# Altium footprint library Stamp-S3Bat_SMD.PcbLib: 1 footprints
Each footprint in its own frame and in the unit in brackets; x right, y up, seen from the top. Pads: shape width x height; smd on the part's side, far side on the other; paste and mask are expansions set on the pad; w line width, h text height; cw(c..) or ccw(c..) is an arc to the next point about the centre after c.
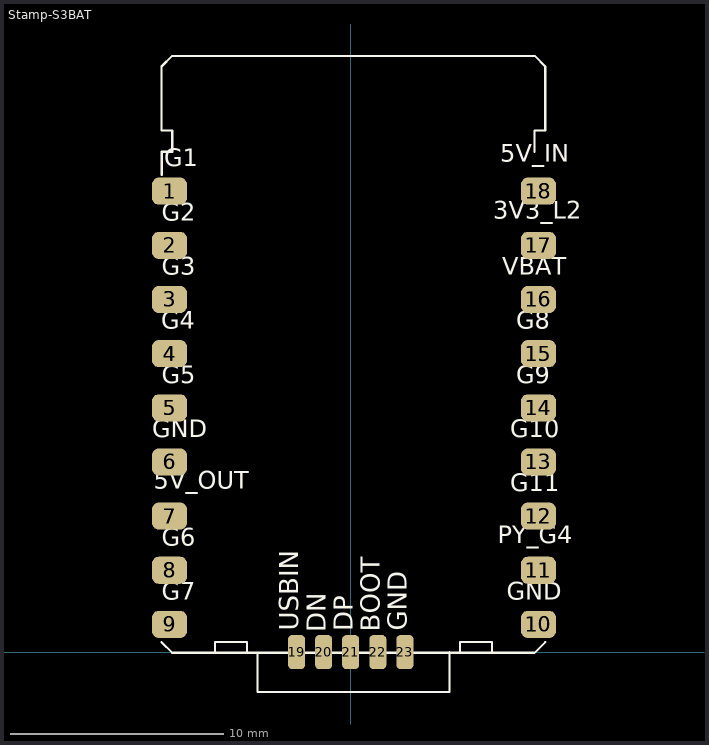
[diagram p0: the footprint, top view; thin cyan lines are the x and y axes]

## Stamp-S3BAT [mm]
pads (39):
  rrect50% 1.651x1.27 smd: 1(-8.5,21.62) 2(-8.5,19.08) 3(-8.5,16.54) 3(-8.5,16.54) 4(-8.5,14) 4(-8.5,14) 5(-8.5,11.46) 5(-8.5,11.46) 6(-8.5,8.92) 6(-8.5,8.92) 7(-8.5,6.38) 7(-8.5,6.38) 8(-8.5,3.84) 8(-8.5,3.84) 9(-8.5,1.3) 9(-8.5,1.3) 10(8.808,1.3) 10(8.808,1.3) 11(8.808,3.84) 11(8.808,3.84) 12(8.808,6.38) 12(8.808,6.38) 13(8.808,8.92) 13(8.808,8.92) 14(8.808,11.46) 14(8.808,11.46) 15(8.808,14) 15(8.808,14) 16(8.808,16.54) 16(8.808,16.54) 17(8.808,19.08) 17(8.808,19.08) 18(8.808,21.62) 18(8.808,21.62)
  rrect50% 0.8x1.6 smd paste-2539.97 mask+0.051: 19(-2.54,0) 20(-1.27,0) 21(0,0) 22(1.27,0) 23(2.54,0)
Top Overlay:
  lines w0.1: -8.873,0.47 -8.373,-0.03 -6.373,-0.03 -6.373,0.47 -4.873,0.47 -4.873,-0.03 5.127,-0.03 5.127,0.47 6.627,0.47 6.627,-0.03 8.627,-0.03 9.127,0.47 ; -8.873,23.47 -8.373,23.47 -8.373,24.47 -8.873,24.47 -8.873,27.47 -8.373,27.97 -5.373,27.97 -4.373,27.97 8.627,27.97 9.127,27.47 9.127,24.47 8.627,24.47 8.627,23.47 ; -6.873,-0.03 -2.373,-0.03 ; -4.373,-0.03 -4.373,-1.88 4.627,-1.88 4.627,0 ; 2.627,-0.03 7.127,-0.03
  lines w0.127: -8.865,22.403 -8.865,23.47
  text "GND" at 2.934,1.002 h1.52
  text "BOOT" at 1.664,0.957 h1.52
  text "DP" at 0.392,0.988 h1.52
  text "DN" at -0.877,0.933 h1.52
  text "USBIN" at -2.146,0.997 h1.52
  text "5V_IN" at 7.005,22.726 h1.4
  text "3V3_L2" at 6.694,20.054 h1.4
  text "VBAT" at 7.102,17.419 h1.4
  text "G8" at 7.766,14.879 h1.4
  text "G9" at 7.77,12.339 h1.4
  text "G10" at 7.473,9.799 h1.4
  text "G11" at 7.485,7.259 h1.4
  text "PY_G4" at 6.891,4.814 h1.4
  text "GND" at 7.321,2.179 h1.4
  text "G7" at -8.866,2.179 h1.4
  text "G6" at -8.871,4.719 h1.4
  text "5V_OUT" at -9.243,7.38 h1.4
  text "GND" at -9.316,9.799 h1.4
  text "G5" at -8.862,12.339 h1.4
  text "G4" at -8.878,14.879 h1.4
  text "G3" at -8.865,17.419 h1.4
  text "G2" at -8.866,19.959 h1.4
  text "G1" at -8.735,22.499 h1.4
3D body: height 0, standoff 0, extent 7.874,15.786 9.728,17.259
3D body: height 0, standoff 0, extent 7.874,18.313 9.728,19.787
3D body: height 0, standoff 0, extent 7.874,20.853 9.728,22.327
3D body: height 0, standoff 0, extent 7.874,8.191 9.728,9.665
3D body: height 0, standoff 0, extent 7.874,10.719 9.728,12.192
3D body: height 0, standoff 0, extent 7.874,13.259 9.728,14.732
3D body: height 0, standoff 0, extent 7.874,0.572 9.728,2.045
3D body: height 0, standoff 0, extent 7.874,3.099 9.728,4.572
3D body: height 0, standoff 0, extent 7.874,5.639 9.728,7.112
3D body: height 0.03, standoff 0, extent -2.972,-0.838 -2.108,0.838
3D body: height 0.03, standoff 0, extent -1.702,-0.838 -0.838,0.838
3D body: height 0.03, standoff 0, extent -0.432,-0.838 0.432,0.838
3D body: height 0.03, standoff 0, extent 0.838,-0.838 1.702,0.838
3D body: height 0.03, standoff 0, extent 2.108,-0.838 2.972,0.838
3D body: height 0, standoff 0, extent -9.423,20.879 -7.569,22.352
3D body: height 0, standoff 0, extent -9.423,18.339 -7.569,19.812
3D body: height 0, standoff 0, extent -9.423,15.811 -7.569,17.285
3D body: height 0, standoff 0, extent -9.423,13.259 -7.569,14.732
3D body: height 0, standoff 0, extent -9.423,10.719 -7.569,12.192
3D body: height 0, standoff 0, extent -9.423,8.191 -7.569,9.665
3D body: height 0, standoff 0, extent -9.423,5.639 -7.569,7.112
3D body: height 0, standoff 0, extent -9.423,3.099 -7.569,4.572
3D body: height 0, standoff 0, extent -9.423,0.572 -7.569,2.045
3D body "Stamp-S3BAT.step": height 4.28, standoff 0.02, extent -8.822,-1.734 9.178,28.046